# Altium schematic symbol library Resistor_0603.SchLib: 250 symbols (part 2 of 6)
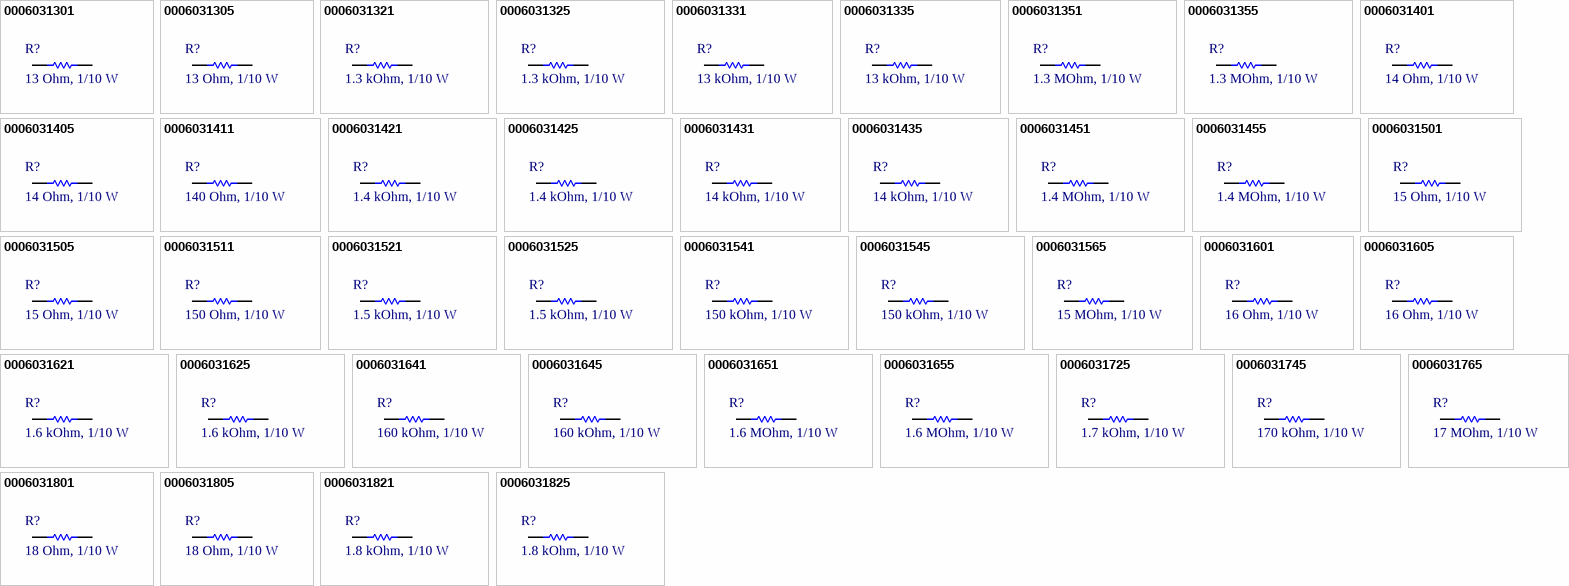
[diagram p7: symbols 0006031301 to 0006031825]

## 0006031325
designator R?, comment 1.3 kOhm, 1/10 W
RES, size 0603, 1.3 kOhm, 1/10 W, 5%; Manufacturer: Panasonic; Manufacturer Part Number: ERJ-PA3J132V; Rated Power: 1/10 W; Tolerance: +/-5%; Resistance: 1.3 kOhm; Supplier 1 URL: https://www.mouser.vn/ProductDetail/Panasonic/ERJ-PA3J132V?qs=BzJM0faLVqVH6IcrChaVZw%3D%3D; Supplier 3 URL: N/A; Value: 1.3 kOhm; Supplier 2 URL: https://www.digikey.com/en/products/detail/panasonic-electronic-components/ERJ-PA3J132V/5035986?s=N4IgTCBcDaIGxwOwFoCiAlAUsgCgQQGZMBGAsANRAF0BfIA; Packaging: Tape and Reel; Supplier 1: Mouser; Supplier 1 Part Number: 667-ERJ-PA3J132V; Supplier 2: Digi-Key; Supplier 2 Part Number: P1.3KBZTR-ND - Tape & Reel (TR); Supplier 3: thegioiic; Supplier 3 Part Number: N/A; ComponentLink1Description: Datasheet; ComponentLink1URL: https://www.mouser.vn/datasheet/2/315/AOA0000C331-1141874.pdf; Mount: SMD/SMT; Operating Temperature Max: + 85 C; Operating Temperature Min: - 40 C; Package / Case: 0603; LCSC Part #: N/A
footprint RES_0603 (Chip Resistor, 2-Leads, Body 1.55x0.85mm, IPC Medium Density)
simulation model R_Resistor_Default (Model Description)
signal-integrity model Resistor Model
pins: 1, 2

## 0006031331
designator R?, comment 13 kOhm, 1/10 W
RES, size 0603, 13 kOhm, 1/10 W, 1%; Manufacturer: YAGEO; Manufacturer Part Number: RC0603FR-0713KL; Resistance: 13 kOhm; Rated Power: 1/10 W; Value: 13 kOhm; Tolerance: +/-1%; Supplier 1 URL: https://www.mouser.vn/ProductDetail/YAGEO/RC0603FR-0713KL?qs=VU8sRB4EgwDwzme11Z67rA%3D%3D; Supplier 3 URL: N/A; Supplier 2 URL: https://www.digikey.com/en/products/detail/yageo/rc0603fr-0713kl/726929; Packaging: Tape and Reel; Supplier 1: Mouser; Supplier 1 Part Number: 603-RC0603FR-0713KL; Supplier 2: Digi-Key; Supplier 2 Part Number: 311-13.0KHRTR-ND; Supplier 3: thegioiic; Supplier 3 Part Number: N/A; ComponentLink1Description: Datasheet; ComponentLink1URL: https://lcsc.com/datasheet/lcsc_datasheet_2506161055_YAGEO-RC0603FR-0713K3L_C185373.pdf; Mount: SMD/SMT; Operating Temperature Max: + 85 C; Operating Temperature Min: - 40 C; Package / Case: 0603; LCSC Part #: C137796
footprint RES_0603 (Chip Resistor, 2-Leads, Body 1.55x0.85mm, IPC Medium Density)
simulation model R_Resistor_Default (Model Description)
signal-integrity model Resistor Model
pins: 1, 2

## 0006031335
designator R?, comment 13 kOhm, 1/10 W
RES, size 0603, 13 kOhm, 1/10 W, 5%; Manufacturer: Panasonic; Manufacturer Part Number: ERJ-PA3J133V; Rated Power: 1/10 W; Resistance: 13 kOhm; Value: 13 kOhm; Tolerance: +/-5%; Supplier 1 URL: https://www.mouser.vn/ProductDetail/Panasonic/ERJ-PA3J133V?qs=BzJM0faLVqWIEe8wMw2nxQ%3D%3D; Supplier 3 URL: https://www.thegioiic.com/dien-tro-13-kohm-0603-5; Supplier 2 URL: https://www.digikey.com/en/products/detail/panasonic-electronic-components/ERJ-PA3J133V/5035987?s=N4IgTCBcDaIGxwOwFoCiAlAUsgCgQQGZMBGAggNRAF0BfIA; Packaging: Tape and Reel; Supplier 1: Mouser; Supplier 1 Part Number: 667-ERJ-PA3J133V; Supplier 2: Digi-Key; Supplier 2 Part Number: P13KBZTR-ND - Tape & Reel (TR); Supplier 3: thegioiic; Supplier 3 Part Number: N/A; ComponentLink1Description: Datasheet; ComponentLink1URL: https://www.mouser.vn/datasheet/2/315/AOA0000C331-1141874.pdf; Mount: SMD/SMT; Operating Temperature Max: + 85 C; Operating Temperature Min: - 40 C; Package / Case: 0603; LCSC Part #: N/A
footprint RES_0603 (Chip Resistor, 2-Leads, Body 1.55x0.85mm, IPC Medium Density)
simulation model R_Resistor_Default (Model Description)
signal-integrity model Resistor Model
pins: 1, 2

## 0006031351
designator R?, comment 1.3 MOhm, 1/10 W
RES, size 0603, 1.3 MOhm, 1/10 W, 1%; Manufacturer: OEM; Rated Power: 1/10 W; Tolerance: +/-1%; Resistance: 1.3 MOhm; Supplier 1 URL: https://www.mouser.vn/ProductDetail/ROHM-Semiconductor/ESR03EZPF1304?qs=sGAEpiMZZMvdGkrng054tywGjayRHxH2F68AQDlvJAEARD0qBpXaNA%3D%3D; Supplier 3 URL: N/A; Value: 1.3 MOhm; Supplier 2 URL: https://www.digikey.com/en/products/detail/rohm-semiconductor/ESR03EZPF1304/4007161?s=N4IgjCBcoExaBjKAzAhgGwM4FMA0IB7KAbXADYBWAFgGYQBdfABwBcoQBlFgJwEsA7AOYgAvvjrQQSSGix5CJcGBoRGIVuy58ho-GBgBOCJOmyc%2BIpFI0DMKhQbM2kTjwHCxIGAAYAHA5MUDHMFK3AAOhoAAgBZAHkACwBbTEd1ZxAAVX5eFjjkGOxUTABXbmxRTzgw8sxeTBYCbgYRIA; Packaging: Tape and Reel; Supplier 1: Mouser; Supplier 1 Part Number: 755-ESR03EZPF1304; Supplier 2: Digi-Key; Supplier 2 Part Number: ESR03EZPF1304-ND; Supplier 3: thegioiic; Supplier 3 Part Number: N/A; Manufacturer Part Number: OEM; ComponentLink1Description: Datasheet; ComponentLink1URL: https://fscdn.rohm.com/en/products/databook/datasheet/passive/resistor/chip_resistor/esr-e.pdf; Mount: SMD/SMT; Operating Temperature Max: + 85 C; Operating Temperature Min: - 40 C; Package / Case: 0603; LCSC Part #: N/A
footprint RES_0603 (Chip Resistor, 2-Leads, Body 1.55x0.85mm, IPC Medium Density)
simulation model R_Resistor_Default (Model Description)
signal-integrity model Resistor Model
pins: 1, 2

## 0006031355
designator R?, comment 1.3 MOhm, 1/10 W
RES, size 0603, 1.3 MOhm, 1/10 W, 5%; Manufacturer: Panasonic; Manufacturer Part Number: ERJ-PA3J135V; Rated Power: 1/10 W; Tolerance: +/-5%; Resistance: 1.3 MOhm; Supplier 1 URL: https://www.mouser.vn/ProductDetail/Panasonic/ERJ-PA3J135V?qs=qSfuJ%252Bfl%2Fd43JlVrOpg6Sg%3D%3D; Supplier 3 URL: N/A; Value: 1.3 MOhm; Supplier 2 URL: https://www.digikey.com/en/products/detail/panasonic-electronic-components/ERJ-PA3J135V/9694906?s=N4IgTCBcDaIGxwOwFoCiAlAUsgCgQQGZMBGAgVgDUQBdAXyA; Packaging: Tape and Reel; Supplier 1: Mouser; Supplier 1 Part Number: 667-ERJ-PA3J135V; Supplier 2: Digi-Key; Supplier 2 Part Number: P124100TR-ND - Tape & Reel (TR); Supplier 3: thegioiic; Supplier 3 Part Number: N/A; ComponentLink1Description: Datasheet; ComponentLink1URL: https://www.mouser.vn/datasheet/2/315/Panasonic_Resistors_Thick_Film_Anti_Sulf_Anti_Surg-1825099.pdf; Mount: SMD/SMT; Operating Temperature Max: + 85 C; Operating Temperature Min: - 40 C; Package / Case: 0603; LCSC Part #: N/A
footprint RES_0603 (Chip Resistor, 2-Leads, Body 1.55x0.85mm, IPC Medium Density)
simulation model R_Resistor_Default (Model Description)
signal-integrity model Resistor Model
pins: 1, 2

## 0006031401
designator R?, comment 14 Ohm, 1/10 W
RES, size 0603, 14 Ohm, 1/10 W, 1%; Manufacturer: OEM; Resistance: 14 Ohm; Rated Power: 1/10 W; Value: 14 Ohm; Tolerance: +/-1%; Supplier 1 URL: https://www.mouser.vn/ProductDetail/ROHM-Semiconductor/ESR03EZPF14R0?qs=sGAEpiMZZMvdGkrng054txLI%2FDB4oIKDWIlgynysVFeNX%252Bd5gR98IA%3D%3D; Supplier 3 URL: N/A; Supplier 2 URL: https://www.digikey.com/en/products/detail/rohm-semiconductor/ESR03EZPF14R0/15667414; Packaging: Tape and Reel; Supplier 1: Mouser; Supplier 1 Part Number: 755-ESR03EZPF14R0; Supplier 2: Digi-Key; Supplier 2 Part Number: 511-ESR03EZPF14R0TR-ND 511-ESR03EZPF14R0CT-ND 511-ESR03EZPF14R0DKR-ND; Supplier 3: thegioiic; Supplier 3 Part Number: N/A; Manufacturer Part Number: OEM; ComponentLink1Description: Datasheet; ComponentLink1URL: https://fscdn.rohm.com/en/products/databook/datasheet/passive/resistor/chip_resistor/esr-e.pdf; Mount: SMD/SMT; Operating Temperature Max: + 85 C; Operating Temperature Min: - 40 C; Package / Case: 0603; LCSC Part #: N/A
footprint RES_0603 (Chip Resistor, 2-Leads, Body 1.55x0.85mm, IPC Medium Density)
simulation model R_Resistor_Default (Model Description)
signal-integrity model Resistor Model
pins: 1, 2

## 0006031405
designator R?, comment 14 Ohm, 1/10 W
RES, size 0603, 14 Ohm, 1/10 W, 5%; Manufacturer: OEM; Rated Power: 1/10 W; Resistance: 14 Ohm; Value: 14 Ohm; Tolerance: +/-5%; Supplier 1 URL: N/A; Supplier 3 URL: N/A; Supplier 2 URL: N/A; Packaging: Tape and Reel; Supplier 1: Mouser; Supplier 1 Part Number: N/A; Supplier 2: Digi-Key; Supplier 2 Part Number: N/A; Supplier 3: thegioiic; Supplier 3 Part Number: N/A; Manufacturer Part Number: OEM; ComponentLink1Description: Datasheet; ComponentLink1URL: N/A; Mount: SMD/SMT; Operating Temperature Max: + 85 C; Operating Temperature Min: - 40 C; Package / Case: 0603; LCSC Part #: N/A
footprint RES_0603 (Chip Resistor, 2-Leads, Body 1.55x0.85mm, IPC Medium Density)
simulation model R_Resistor_Default (Model Description)
signal-integrity model Resistor Model
pins: 1, 2

## 0006031411
designator R?, comment 140 Ohm, 1/10 W
RES, size 0603, 140 Ohm, 1/10 W, 1%; Manufacturer: OEM; Resistance: 140 Ohm; Rated Power: 1/10 W; Value: 140 Ohm; Tolerance: +/-1%; Supplier 1 URL: https://www.mouser.vn/ProductDetail/Panasonic/ERJ-PA3F1400V?qs=sGAEpiMZZMvdGkrng054t6%2FAfIpq60YDUw0C6t6aFC9B4ZKoQojPVQ%3D%3D; Supplier 3 URL: N/A; Supplier 2 URL: N/A; Packaging: Tape and Reel; Supplier 1: Mouser; Supplier 1 Part Number: 667-ERJ-PA3F1400V; Supplier 2: Digi-Key; Supplier 2 Part Number: 10-ERJ-UP3F1400VTR-ND; Supplier 3: thegioiic; Supplier 3 Part Number: N/A; Manufacturer Part Number: OEM; ComponentLink1Description: Datasheet; ComponentLink1URL: https://api.pim.na.industrial.panasonic.com/file_stream/main/fileversion/4484; Mount: SMD/SMT; Operating Temperature Max: + 85 C; Operating Temperature Min: - 40 C; Package / Case: 0603; LCSC Part #: N/A
footprint RES_0603 (Chip Resistor, 2-Leads, Body 1.55x0.85mm, IPC Medium Density)
simulation model R_Resistor_Default (Model Description)
signal-integrity model Resistor Model
pins: 1, 2

## 0006031421
designator R?, comment 1.4 kOhm, 1/10 W
RES, size 0603, 1.4 kOhm, 1/10 W, 1%; Manufacturer: OEM; Rated Power: 1/10 W; Tolerance: +/-1%; Resistance: 1.4 kOhm; Supplier 1 URL: https://www.mouser.vn/ProductDetail/Panasonic/ERJ-UP3F1401V?qs=sGAEpiMZZMvdGkrng054twq3eZrCFN89pBpe1a038m3v47HekkOiAg%3D%3D; Supplier 3 URL: N/A; Value: 1.4 kOhm; Supplier 2 URL: N/A; Packaging: Tape and Reel; Supplier 1: Mouser; Supplier 1 Part Number: 667-ERJ-UP3F1401V; Supplier 2: Digi-Key; Supplier 2 Part Number: 10-ERJ-UP3F1401VTR-ND; Supplier 3: thegioiic; Supplier 3 Part Number: N/A; Manufacturer Part Number: OEM; ComponentLink1Description: Datasheet; ComponentLink1URL: https://api.pim.na.industrial.panasonic.com/file_stream/main/fileversion/4484; Mount: SMD/SMT; Operating Temperature Max: + 85 C; Operating Temperature Min: - 40 C; Package / Case: 0603; LCSC Part #: N/A
footprint RES_0603 (Chip Resistor, 2-Leads, Body 1.55x0.85mm, IPC Medium Density)
simulation model R_Resistor_Default (Model Description)
signal-integrity model Resistor Model
pins: 1, 2

## 0006031425
designator R?, comment 1.4 kOhm, 1/10 W
RES, size 0603, 1.4 kOhm, 1/10 W, 5%; Manufacturer: OEM; Rated Power: 1/10 W; Tolerance: +/-5%; Resistance: 1.4 kOhm; Supplier 1 URL: N/A; Supplier 3 URL: N/A; Value: 1.4 kOhm; Supplier 2 URL: N/A; Packaging: Tape and Reel; Supplier 1: Mouser; Supplier 1 Part Number: N/A; Supplier 2: Digi-Key; Supplier 2 Part Number: N/A; Supplier 3: thegioiic; Supplier 3 Part Number: N/A; Manufacturer Part Number: OEM; ComponentLink1Description: Datasheet; ComponentLink1URL: N/A; Mount: SMD/SMT; Operating Temperature Max: + 85 C; Operating Temperature Min: - 40 C; Package / Case: 0603; LCSC Part #: N/A
footprint RES_0603 (Chip Resistor, 2-Leads, Body 1.55x0.85mm, IPC Medium Density)
simulation model R_Resistor_Default (Model Description)
signal-integrity model Resistor Model
pins: 1, 2

## 0006031431
designator R?, comment 14 kOhm, 1/10 W
RES, size 0603, 14 kOhm, 1/10 W, 1%; Manufacturer: OEM; Resistance: 14 kOhm; Rated Power: 1/10 W; Value: 14 kOhm; Tolerance: +/-1%; Supplier 1 URL: https://www.mouser.vn/ProductDetail/Panasonic/ERJ-UP3F1402V?qs=sGAEpiMZZMvdGkrng054twq3eZrCFN898VaK5WHU92U0FyzYc7IlXQ%3D%3D; Supplier 3 URL: N/A; Supplier 2 URL: N/A; Packaging: Tape and Reel; Supplier 1: Mouser; Supplier 1 Part Number: 667-ERJ-UP3F1402V; Supplier 2: Digi-Key; Supplier 2 Part Number: 10-ERJ-UP3F1402VTR-ND; Supplier 3: thegioiic; Supplier 3 Part Number: N/A; Manufacturer Part Number: OEM; ComponentLink1Description: Datasheet; ComponentLink1URL: https://api.pim.na.industrial.panasonic.com/file_stream/main/fileversion/4484; Mount: SMD/SMT; Operating Temperature Max: + 85 C; Operating Temperature Min: - 40 C; Package / Case: 0603; LCSC Part #: N/A
footprint RES_0603 (Chip Resistor, 2-Leads, Body 1.55x0.85mm, IPC Medium Density)
simulation model R_Resistor_Default (Model Description)
signal-integrity model Resistor Model
pins: 1, 2

## 0006031435
designator R?, comment 14 kOhm, 1/10 W
RES, size 0603, 14 kOhm, 1/10 W, 5%; Manufacturer: OEM; Rated Power: 1/10 W; Resistance: 14 kOhm; Value: 14 kOhm; Tolerance: +/-5%; Supplier 1 URL: N/A; Supplier 3 URL: N/A; Supplier 2 URL: N/A; Packaging: Tape and Reel; Supplier 1: Mouser; Supplier 1 Part Number: N/A; Supplier 2: Digi-Key; Supplier 2 Part Number: N/A; Supplier 3: thegioiic; Supplier 3 Part Number: N/A; Manufacturer Part Number: OEM; ComponentLink1Description: Datasheet; ComponentLink1URL: N/A; Mount: SMD/SMT; Operating Temperature Max: + 85 C; Operating Temperature Min: - 40 C; Package / Case: 0603; LCSC Part #: N/A
footprint RES_0603 (Chip Resistor, 2-Leads, Body 1.55x0.85mm, IPC Medium Density)
simulation model R_Resistor_Default (Model Description)
signal-integrity model Resistor Model
pins: 1, 2

## 0006031451
designator R?, comment 1.4 MOhm, 1/10 W
RES, size 0603, 1.4 MOhm, 1/10 W, 1%; Manufacturer: OEM; Rated Power: 1/10 W; Tolerance: +/-1%; Resistance: 1.4 MOhm; Supplier 1 URL: https://www.mouser.vn/ProductDetail/Walsin/MR06W1404FTL?qs=GedFDFLaBXEJcV7CwmDJPg%3D%3D; Supplier 3 URL: N/A; Value: 1.4 MOhm; Supplier 2 URL: N/A; Packaging: Tape and Reel; Supplier 1: Mouser; Supplier 1 Part Number: 791-MR06W1404FTL; Supplier 2: Digi-Key; Supplier 2 Part Number: N/A; Supplier 3: thegioiic; Supplier 3 Part Number: N/A; Manufacturer Part Number: OEM; ComponentLink1Description: Datasheet; ComponentLink1URL: https://www.mouser.vn/datasheet/2/210/kamaya_watc_s_a0007468046_1-1736097.pdf; Mount: SMD/SMT; Operating Temperature Max: + 85 C; Operating Temperature Min: - 40 C; Package / Case: 0603; LCSC Part #: N/A
footprint RES_0603 (Chip Resistor, 2-Leads, Body 1.55x0.85mm, IPC Medium Density)
simulation model R_Resistor_Default (Model Description)
signal-integrity model Resistor Model
pins: 1, 2

## 0006031455
designator R?, comment 1.4 MOhm, 1/10 W
RES, size 0603, 1.4 MOhm, 1/10 W, 5%; Manufacturer: OEM; Rated Power: 1/10 W; Tolerance: +/-5%; Resistance: 1.4 MOhm; Supplier 1 URL: N/A; Supplier 3 URL: N/A; Value: 1.4 MOhm; Supplier 2 URL: N/A; Packaging: Tape and Reel; Supplier 1: Mouser; Supplier 1 Part Number: N/A; Supplier 2: Digi-Key; Supplier 2 Part Number: N/A; Supplier 3: thegioiic; Supplier 3 Part Number: N/A; Manufacturer Part Number: OEM; ComponentLink1Description: Datasheet; ComponentLink1URL: N/A; Mount: SMD/SMT; Operating Temperature Max: + 85 C; Operating Temperature Min: - 40 C; Package / Case: 0603; LCSC Part #: N/A
footprint RES_0603 (Chip Resistor, 2-Leads, Body 1.55x0.85mm, IPC Medium Density)
simulation model R_Resistor_Default (Model Description)
signal-integrity model Resistor Model
pins: 1, 2

## 0006031501
designator R?, comment 15 Ohm, 1/10 W
RES, size 0603, 15 Ohm, 1/10 W, 1%; Manufacturer: OEM; Rated Power: 1/10 W; Resistance: 15 Ohm; Value: 15 Ohm; Tolerance: +/-1%; Supplier 1 URL: https://www.mouser.vn/ProductDetail/Panasonic/ERJ-UP3F15R0V?qs=GedFDFLaBXGQZcdT1wNdQA%3D%3D; Supplier 3 URL: N/A; Supplier 2 URL: https://www.digikey.com/en/products/detail/te-connectivity-passive-product/CRGCQ0603F15R/8576268; Packaging: Tape and Reel; Supplier 1: Mouser; Supplier 1 Part Number: 667-ERJ-UP3F15R0V; Supplier 2: Digi-Key; Supplier 2 Part Number: A129666TR-ND; Supplier 3: thegioiic; Supplier 3 Part Number: N/A; Manufacturer Part Number: OEM; ComponentLink1Description: Datasheet; ComponentLink1URL: N/A; Mount: SMD/SMT; Operating Temperature Max: + 85 C; Operating Temperature Min: - 40 C; Package / Case: 0603; LCSC Part #: N/A
footprint RES_0603 (Chip Resistor, 2-Leads, Body 1.55x0.85mm, IPC Medium Density)
simulation model R_Resistor_Default (Model Description)
signal-integrity model Resistor Model
pins: 1, 2

## 0006031505
designator R?, comment 15 Ohm, 1/10 W
RES, size 0603, 15 Ohm, 1/10 W, 5%; Manufacturer: Panasonic; Manufacturer Part Number: ERJ-PA3J150V; Rated Power: 1/10 W; Resistance: 15 Ohm; Value: 15 Ohm; Tolerance: +/-5%; Supplier 1 URL: https://www.mouser.vn/ProductDetail/Panasonic/ERJ-PA3J150V?qs=BzJM0faLVqWQrQpdpn4WSg%3D%3D; Supplier 3 URL: https://www.thegioiic.com/dien-tro-15-ohm-0603-5-; Supplier 2 URL: https://www.digikey.com/en/products/detail/panasonic-electronic-components/ERJ-PA3J150V/5035989?s=N4IgTCBcDaIGxwOwFoCiAlAUsgCgQQGZMBGAVgAYA1EAXQF8g; Packaging: Tape and Reel; Supplier 1: Mouser; Supplier 1 Part Number: 667-ERJ-PA3J150V; Supplier 2: Digi-Key; Supplier 2 Part Number: P15.00BZTR-ND - Tape & Reel (TR); Supplier 3: thegioiic; Supplier 3 Part Number: N/A; ComponentLink1Description: Datasheet; ComponentLink1URL: https://www.mouser.vn/datasheet/2/315/AOA0000C331-1141874.pdf; Mount: SMD/SMT; Operating Temperature Max: + 85 C; Operating Temperature Min: - 40 C; Package / Case: 0603; LCSC Part #: N/A
footprint RES_0603 (Chip Resistor, 2-Leads, Body 1.55x0.85mm, IPC Medium Density)
simulation model R_Resistor_Default (Model Description)
signal-integrity model Resistor Model
pins: 1, 2

## 0006031511
designator R?, comment 150 Ohm, 1/10 W
RES, size 0603, 150 Ohm, 1/10 W, 1%; Manufacturer: OEM; Resistance: 150 Ohm; Rated Power: 1/10 W; Value: 150 Ohm; Tolerance: +/-1%; Supplier 1 URL: https://www.mouser.vn/ProductDetail/Panasonic/ERJ-UP3F1500V?qs=sGAEpiMZZMvdGkrng054twq3eZrCFN89aN9HHZ6KB345kfMKb%252BB8mQ%3D%3D; Supplier 3 URL: N/A; Supplier 2 URL: N/A; Packaging: Tape and Reel; Supplier 1: Mouser; Supplier 1 Part Number: 667-ERJ-UP3F1500V; Supplier 2: Digi-Key; Supplier 2 Part Number: 10-ERJ-UP3F1500VTR-ND 10-ERJ-UP3F1500VCT-ND 10-ERJ-UP3F1500VDKR-ND; Supplier 3: thegioiic; Supplier 3 Part Number: N/A; Manufacturer Part Number: OEM; ComponentLink1Description: Datasheet; ComponentLink1URL: https://api.pim.na.industrial.panasonic.com/file_stream/main/fileversion/4484; Mount: SMD/SMT; Operating Temperature Max: + 85 C; Operating Temperature Min: - 40 C; Package / Case: 0603; LCSC Part #: N/A
footprint RES_0603 (Chip Resistor, 2-Leads, Body 1.55x0.85mm, IPC Medium Density)
simulation model R_Resistor_Default (Model Description)
signal-integrity model Resistor Model
pins: 1, 2

## 0006031521
designator R?, comment 1.5 kOhm, 1/10 W
RES, size 0603, 1.5 kOhm, 1/10 W, 1%; Manufacturer: OEM; Rated Power: 1/10 W; Tolerance: +/-1%; Resistance: 1.5  kOhm; Supplier 1 URL: https://www.mouser.vn/ProductDetail/ROHM-Semiconductor/SFR03EZPF1501?qs=byeeYqUIh0NryWvnzlukLQ%3D%3D; Supplier 3 URL: N/A; Value: 1.5 kOhm; Supplier 2 URL: https://www.digikey.com/en/products/detail/yageo/RC0603FR-071R5L/5918292; Packaging: Tape and Reel; Supplier 1: Mouser; Supplier 1 Part Number: 755-SFR03EZPF1501; Supplier 2: Digi-Key; Supplier 2 Part Number: 13-RC0603FR-071R5LTR-ND; Supplier 3: thegioiic; Supplier 3 Part Number: N/A; Manufacturer Part Number: OEM; ComponentLink1Description: Datasheet; ComponentLink1URL: N/A; Mount: SMD/SMT; Operating Temperature Max: + 85 C; Operating Temperature Min: - 40 C; Package / Case: 0603; LCSC Part #: N/A
footprint RES_0603 (Chip Resistor, 2-Leads, Body 1.55x0.85mm, IPC Medium Density)
simulation model R_Resistor_Default (Model Description)
signal-integrity model Resistor Model
pins: 1, 2

## 0006031525
designator R?, comment 1.5 kOhm, 1/10 W
RES, size 0603, 1.5 kOhm, 1/10 W, 5%; Manufacturer: Panasonic; Rated Power: 1/10 W; Tolerance: +/-5%; Resistance: 1.5 kOhm; Supplier 1 URL: https://www.mouser.vn/ProductDetail/Panasonic/ERJ-PA3J152V?qs=BzJM0faLVqVoRX2ZXjooUw%3D%3D; Supplier 3 URL: N/A; Value: 1.5 kOhm; Supplier 2 URL: https://www.digikey.com/en/products/detail/panasonic-electronic-components/ERJ-PA3J152V/5035991?s=N4IgTCBcDaIGxwOwFoCiAlAUsgCgQQGZMBGAVjADUQBdAXyA; Packaging: Tape and Reel; Supplier 1: Mouser; Supplier 1 Part Number: 667-ERJ-PA3J152V; Supplier 2: Digi-Key; Supplier 2 Part Number: P1.5KBZTR-ND - Tape & Reel (TR); Supplier 3: thegioiic; Supplier 3 Part Number: N/A; Manufacturer Part Number: https://www.mouser.vn/ProductDetail/Panasonic/ERJ-PA3J152V?qs=BzJM0faLVqVoRX2ZXjooUw%3D%3D; ComponentLink1Description: Datasheet; ComponentLink1URL: https://www.mouser.vn/datasheet/2/315/Panasonic_Resistors_Thick_Film_Anti_Sulf_Anti_Surg-1825099.pdf; Mount: SMD/SMT; Operating Temperature Max: + 85 C; Operating Temperature Min: - 40 C; Package / Case: 0603; LCSC Part #: N/A
footprint RES_0603 (Chip Resistor, 2-Leads, Body 1.55x0.85mm, IPC Medium Density)
simulation model R_Resistor_Default (Model Description)
signal-integrity model Resistor Model
pins: 1, 2

## 0006031541
designator R?, comment 150 kOhm, 1/10 W
RES, size 0603, 150 kOhm, 1/10 W, 1%; Manufacturer: YAGEO; Manufacturer Part Number: RC0603FR-07150KL; Rated Power: 1/10 W; Tolerance: +/-1%; Resistance: 150 kOhm; Supplier 1 URL: https://www.mouser.com/ProductDetail/YAGEO/RC0603FR-07150KL?qs=VU8sRB4EgwAs5t5QrX5iHA%3D%3D; Supplier 3 URL: N/A; Value: 150 kOhm; Supplier 2 URL: https://www.digikey.com/en/products/detail/yageo/rc0603fr-07150kl/726959; Packaging: Tape and Reel; Supplier 1: Mouser; Supplier 1 Part Number: 603-RC0603FR-07150KL; Supplier 2: Digi-Key; Supplier 2 Part Number: 311-150KHRTR-ND; Supplier 3: thegioiic; Supplier 3 Part Number: N/A; ComponentLink1Description: Datasheet; ComponentLink1URL: https://www.lcsc.com/datasheet/C114660.pdf; Mount: SMD/SMT; Operating Temperature Max: + 85 C; Operating Temperature Min: - 40 C; Package / Case: 0603; LCSC Part #: C114660
footprint RES_0603 (Chip Resistor, 2-Leads, Body 1.55x0.85mm, IPC Medium Density)
simulation model R_Resistor_Default (Model Description)
signal-integrity model Resistor Model
pins: 1, 2

## 0006031545
designator R?, comment 150 kOhm, 1/10 W
RES, size 0603, 150 kOhm, 1/10 W, 5%; Manufacturer: Panasonic; Manufacturer Part Number: ERJ-PA3J154V; Rated Power: 1/10 W; Tolerance: +/-5%; Resistance: 150 kOhm; Supplier 1 URL: https://www.mouser.vn/ProductDetail/Panasonic/ERJ-PA3J154V?qs=BzJM0faLVqUQ0OxnTOD5Tw%3D%3D; Supplier 3 URL: https://www.thegioiic.com/dien-tro-150-kohm-0603-5; Value: 150 kOhm; Supplier 2 URL: https://www.digikey.com/en/products/detail/panasonic-electronic-components/ERJ-PA3J154V/5035993?s=N4IgTCBcDaIKICUBSBaACgQQMxIIwFYAWANRAF0BfIA; Packaging: Tape and Reel; Supplier 1: Mouser; Supplier 1 Part Number: 667-ERJ-PA3J154V; Supplier 2: Digi-Key; Supplier 2 Part Number: P150KBZTR-ND - Tape & Reel (TR); Supplier 3: thegioiic; Supplier 3 Part Number: N/A; ComponentLink1Description: Datasheet; ComponentLink1URL: https://www.mouser.vn/datasheet/2/315/AOA0000C331-1141874.pdf; Mount: SMD/SMT; Operating Temperature Max: + 85 C; Operating Temperature Min: - 40 C; Package / Case: 0603; LCSC Part #: N/A
footprint RES_0603 (Chip Resistor, 2-Leads, Body 1.55x0.85mm, IPC Medium Density)
simulation model R_Resistor_Default (Model Description)
signal-integrity model Resistor Model
pins: 1, 2

## 0006031565
designator R?, comment 15 MOhm, 1/10 W
RES, size 0603, 15 MOhm, 1/10 W, 5%; Manufacturer: OEM; Rated Power: 1/10 W; Resistance: 15 MOhm; Value: 15 MOhm; Tolerance: +/-5%; Supplier 1 URL: N/A; Supplier 3 URL: N/A; Supplier 2 URL: N/A; Packaging: Tape and Reel; Supplier 1: Mouser; Supplier 1 Part Number: N/A; Supplier 2: Digi-Key; Supplier 2 Part Number: N/A; Supplier 3: thegioiic; Supplier 3 Part Number: N/A; Manufacturer Part Number: OEM; ComponentLink1Description: Datasheet; ComponentLink1URL: N/A; Mount: SMD/SMT; Operating Temperature Max: + 85 C; Operating Temperature Min: - 40 C; Package / Case: 0603; LCSC Part #: N/A
footprint RES_0603 (Chip Resistor, 2-Leads, Body 1.55x0.85mm, IPC Medium Density)
simulation model R_Resistor_Default (Model Description)
signal-integrity model Resistor Model
pins: 1, 2

## 0006031601
designator R?, comment 16 Ohm, 1/10 W
RES, size 0603, 16 Ohm, 1/10 W, 1%; Manufacturer: OEM; Resistance: 16 Ohm; Rated Power: 1/10 W; Value: 16 Ohm; Tolerance: +/-1%; Supplier 1 URL: https://www.mouser.vn/ProductDetail/ROHM-Semiconductor/ESR03EZPF16R0?qs=sGAEpiMZZMvdGkrng054tywGjayRHxH2wMEIET7Cwghl8FZ0HiH%2FCA%3D%3D; Supplier 3 URL: N/A; Supplier 2 URL: https://www.digikey.com/en/products/detail/rohm-semiconductor/ESR03EZPF16R0/4007172; Packaging: Tape and Reel; Supplier 1: Mouser; Supplier 1 Part Number: 755-ESR03EZPF16R0; Supplier 2: Digi-Key; Supplier 2 Part Number: ESR03EZPF16R0-ND; Supplier 3: thegioiic; Supplier 3 Part Number: N/A; Manufacturer Part Number: OEM; ComponentLink1Description: Datasheet; ComponentLink1URL: https://fscdn.rohm.com/en/products/databook/datasheet/passive/resistor/chip_resistor/esr-e.pdf; Mount: SMD/SMT; Operating Temperature Max: + 85 C; Operating Temperature Min: - 40 C; Package / Case: 0603; LCSC Part #: N/A
footprint RES_0603 (Chip Resistor, 2-Leads, Body 1.55x0.85mm, IPC Medium Density)
simulation model R_Resistor_Default (Model Description)
signal-integrity model Resistor Model
pins: 1, 2

## 0006031605
designator R?, comment 16 Ohm, 1/10 W
RES, size 0603, 16 Ohm, 1/10 W, 5%; Manufacturer: Panasonic; Manufacturer Part Number: ERJ-PA3J160V; Rated Power: 1/10 W; Resistance: 16 Ohm; Value: 16 Ohm; Tolerance: +/-5%; Supplier 1 URL: https://www.mouser.vn/ProductDetail/Panasonic/ERJ-PA3J160V?qs=BzJM0faLVqV33b%2FdElWIBA%3D%3D; Supplier 3 URL: N/A; Supplier 2 URL: https://www.digikey.com/en/products/detail/panasonic-electronic-components/ERJ-PA3J160V/5035994?s=N4IgTCBcDaIGxwOwFoCiAlAUsgCgQQGZMBGOABgDUQBdAXyA; Packaging: Tape and Reel; Supplier 1: Mouser; Supplier 1 Part Number: 667-ERJ-PA3J160V; Supplier 2: Digi-Key; Supplier 2 Part Number: P16.00BZTR-ND - Tape & Reel (TR); Supplier 3: thegioiic; Supplier 3 Part Number: N/A; ComponentLink1Description: Datasheet; ComponentLink1URL: https://www.mouser.vn/datasheet/2/315/AOA0000C331-1141874.pdf; Mount: SMD/SMT; Operating Temperature Max: + 85 C; Operating Temperature Min: - 40 C; Package / Case: 0603; LCSC Part #: N/A
footprint RES_0603 (Chip Resistor, 2-Leads, Body 1.55x0.85mm, IPC Medium Density)
simulation model R_Resistor_Default (Model Description)
signal-integrity model Resistor Model
pins: 1, 2

## 0006031621
designator R?, comment 1.6 kOhm, 1/10 W
RES, size 0603, 1.6 kOhm, 1/10 W, 1%; Manufacturer: OEM; Rated Power: 1/10 W; Tolerance: +/-1%; Resistance: 1.6 kOhm; Supplier 1 URL: https://www.mouser.vn/ProductDetail/Panasonic/ERJ-UP3F1601V?qs=sGAEpiMZZMvdGkrng054twq3eZrCFN89dq27EuLiC%2FCt%252B5lA9pZnUg%3D%3D; Supplier 3 URL: N/A; Value: 1.6 kOhm; Supplier 2 URL: N/A; Packaging: Tape and Reel; Supplier 1: Mouser; Supplier 1 Part Number: 667-ERJ-UP3F1601V; Supplier 2: Digi-Key; Supplier 2 Part Number: 10-ERJ-UP3F1601VTR-ND 10-ERJ-UP3F1601VCT-ND 10-ERJ-UP3F1601VDKR-ND; Supplier 3: thegioiic; Supplier 3 Part Number: N/A; Manufacturer Part Number: OEM; ComponentLink1Description: Datasheet; ComponentLink1URL: https://api.pim.na.industrial.panasonic.com/file_stream/main/fileversion/4484; Mount: SMD/SMT; Operating Temperature Max: + 85 C; Operating Temperature Min: - 40 C; Package / Case: 0603; LCSC Part #: N/A
footprint RES_0603 (Chip Resistor, 2-Leads, Body 1.55x0.85mm, IPC Medium Density)
simulation model R_Resistor_Default (Model Description)
signal-integrity model Resistor Model
pins: 1, 2

## 0006031625
designator R?, comment 1.6 kOhm, 1/10 W
RES, size 0603, 1.6 kOhm, 1/10 W, 5%; Manufacturer: Panasonic; Manufacturer Part Number: ERJ-PA3J162V; Rated Power: 1/10 W; Tolerance: +/-5%; Resistance: 1.6 kOhm; Supplier 1 URL: https://www.mouser.vn/ProductDetail/Panasonic/ERJ-PA3J162V?qs=BzJM0faLVqWmQ2dOma89Ug%3D%3D; Supplier 3 URL: N/A; Value: 1.6 kOhm; Supplier 2 URL: https://www.digikey.com/en/products/detail/panasonic-electronic-components/ERJ-PA3J162V/5035996?s=N4IgTCBcDaIGxwOwFoCiAlAUsgCgQQGZMBGOMANRAF0BfIA; Packaging: Tape and Reel; Supplier 1: Mouser; Supplier 1 Part Number: 667-ERJ-PA3J162V; Supplier 2: Digi-Key; Supplier 2 Part Number: P1.6KBZTR-ND - Tape & Reel (TR); Supplier 3: thegioiic; Supplier 3 Part Number: N/A; ComponentLink1Description: Datasheet; ComponentLink1URL: https://www.mouser.vn/datasheet/2/315/AOA0000C331-1141874.pdf; Mount: SMD/SMT; Operating Temperature Max: + 85 C; Operating Temperature Min: - 40 C; Package / Case: 0603; LCSC Part #: N/A
footprint RES_0603 (Chip Resistor, 2-Leads, Body 1.55x0.85mm, IPC Medium Density)
simulation model R_Resistor_Default (Model Description)
signal-integrity model Resistor Model
pins: 1, 2

## 0006031641
designator R?, comment 160 kOhm, 1/10 W
RES, size 0603, 160 kOhm, 1/10 W, 1%; Manufacturer: OEM; Rated Power: 1/10 W; Tolerance: +/-1%; Resistance: 160 kOhm; Supplier 1 URL: https://www.mouser.vn/ProductDetail/Panasonic/ERJ-UP3F1603V?qs=sGAEpiMZZMvdGkrng054twq3eZrCFN89v2LbROEWqwWohPOVA0N52A%3D%3D; Supplier 3 URL: N/A; Value: 160 kOhm; Supplier 2 URL: N/A; Packaging: Tape and Reel; Supplier 1: Mouser; Supplier 1 Part Number: 667-ERJ-UP3F1603V; Supplier 2: Digi-Key; Supplier 2 Part Number: 10-ERJ-UP3F1603VTR-ND 10-ERJ-UP3F1603VCT-ND 10-ERJ-UP3F1603VDKR-ND; Supplier 3: thegioiic; Supplier 3 Part Number: N/A; Manufacturer Part Number: OEM; ComponentLink1Description: Datasheet; ComponentLink1URL: https://api.pim.na.industrial.panasonic.com/file_stream/main/fileversion/4484; Mount: SMD/SMT; Operating Temperature Max: + 85 C; Operating Temperature Min: - 40 C; Package / Case: 0603; LCSC Part #: N/A
footprint RES_0603 (Chip Resistor, 2-Leads, Body 1.55x0.85mm, IPC Medium Density)
simulation model R_Resistor_Default (Model Description)
signal-integrity model Resistor Model
pins: 1, 2

## 0006031645
designator R?, comment 160 kOhm, 1/10 W
RES, size 0603, 160 kOhm, 1/10 W, 5%; Manufacturer: Panasonic; Manufacturer Part Number: ERJ-PA3J164V; Rated Power: 1/10 W; Tolerance: +/-5%; Resistance: 160 kOhm; Supplier 1 URL: https://www.mouser.vn/ProductDetail/Panasonic/ERJ-PA3J164V?qs=BzJM0faLVqVAGHfBHFIBng%3D%3D; Supplier 3 URL: N/A; Value: 160 kOhm; Supplier 2 URL: https://www.digikey.com/en/products/detail/panasonic-electronic-components/ERJ-PA3J164V/5035998?s=N4IgTCBcDaIGxwOwFoCiAlAUsgCgQQGZMBGOAFgDUQBdAXyA; Packaging: Tape and Reel; Supplier 1: Mouser; Supplier 1 Part Number: 667-ERJ-PA3J164V; Supplier 2: Digi-Key; Supplier 2 Part Number: P160KBZTR-ND - Tape & Reel (TR); Supplier 3: thegioiic; Supplier 3 Part Number: N/A; ComponentLink1Description: Datasheet; ComponentLink1URL: https://www.mouser.vn/datasheet/2/315/Panasonic_Resistors_Thick_Film_Anti_Sulf_Anti_Surg-1825099.pdf; Mount: SMD/SMT; Operating Temperature Max: + 85 C; Operating Temperature Min: - 40 C; Package / Case: 0603; LCSC Part #: N/A
footprint RES_0603 (Chip Resistor, 2-Leads, Body 1.55x0.85mm, IPC Medium Density)
simulation model R_Resistor_Default (Model Description)
signal-integrity model Resistor Model
pins: 1, 2

## 0006031651
designator R?, comment 1.6 MOhm, 1/10 W
RES, size 0603, 1.6 MOhm, 1/10 W, 1%; Manufacturer: OEM; Rated Power: 1/10 W; Tolerance: +/-1%; Resistance: 1.6 MOhm; Supplier 1 URL: https://www.mouser.vn/ProductDetail/ROHM-Semiconductor/ESR03EZPF1604?qs=sGAEpiMZZMvdGkrng054tywGjayRHxH2xp2ZonbCXxj0kHKYgwujog%3D%3D; Supplier 3 URL: N/A; Value: 1.6 MOhm; Supplier 2 URL: https://www.digikey.com/en/products/detail/rohm-semiconductor/ESR03EZPF1604/4007171?s=N4IgjCBcoExaBjKAzAhgGwM4FMA0IB7KAbXADYBWAFgGYQBdfABwBcoQBlFgJwEsA7AOYgAvvjrQQSSGix5CJcGBoRGIVuy58ho-GBgBOCJOmyc%2BIpFI0DMKhQbM2kTjwHCxIGAAYAHA5MUDHMFK3AAOjIAAgBZAHkACwBbTEd1ZxAAVX5eFjjkGOxUTABXbmxRTzgw8sxeTBYCbgYRIA; Packaging: Tape and Reel; Supplier 1: Mouser; Supplier 1 Part Number: 755-ESR03EZPF1604; Supplier 2: Digi-Key; Supplier 2 Part Number: ESR03EZPF1604-ND; Supplier 3: thegioiic; Supplier 3 Part Number: N/A; Manufacturer Part Number: OEM; ComponentLink1Description: Datasheet; ComponentLink1URL: https://fscdn.rohm.com/en/products/databook/datasheet/passive/resistor/chip_resistor/esr-e.pdf; Mount: SMD/SMT; Operating Temperature Max: + 85 C; Operating Temperature Min: - 40 C; Package / Case: 0603; LCSC Part #: N/A
footprint RES_0603 (Chip Resistor, 2-Leads, Body 1.55x0.85mm, IPC Medium Density)
simulation model R_Resistor_Default (Model Description)
signal-integrity model Resistor Model
pins: 1, 2

## 0006031655
designator R?, comment 1.6 MOhm, 1/10 W
RES, size 0603, 1.6 MOhm, 1/10 W, 5%; Manufacturer: Panasonic; Manufacturer Part Number: ESR03EZPJ165; Rated Power: 1/10 W; Tolerance: +/-5%; Resistance: 1.6 MOhm; Supplier 1 URL: https://www.mouser.vn/ProductDetail/ROHM-Semiconductor/ESR03EZPJ165?qs=493kPxzlxfJE2ulu9ea6EQ%3D%3D; Supplier 3 URL: N/A; Value: 1.6 MOhm; Supplier 2 URL: https://www.digikey.com/en/products/detail/rohm-semiconductor/ESR03EZPJ165/4051202?s=N4IgTCBcDaIOwFYEFoCiBlASgBgMyoC0AFAKQEYA2BEAXQF8g; Packaging: Tape and Reel; Supplier 1: Mouser; Supplier 1 Part Number: 755-ESR03EZPJ165; Supplier 2: Digi-Key; Supplier 2 Part Number: RHM1.6MDTR-ND - Tape & Reel (TR); Supplier 3: thegioiic; Supplier 3 Part Number: N/A; ComponentLink1Description: Datasheet; ComponentLink1URL: https://www.mouser.vn/datasheet/2/348/ROHM_S_A0011075102_1-2563252.pdf; Mount: SMD/SMT; Operating Temperature Max: + 85 C; Operating Temperature Min: - 40 C; Package / Case: 0603; LCSC Part #: N/A
footprint RES_0603 (Chip Resistor, 2-Leads, Body 1.55x0.85mm, IPC Medium Density)
simulation model R_Resistor_Default (Model Description)
signal-integrity model Resistor Model
pins: 1, 2

## 0006031725
designator R?, comment 1.7 kOhm, 1/10 W
RES, size 0603, 1.7 kOhm, 1/10 W, 5%; Manufacturer: OEM; Rated Power: 1/10 W; Tolerance: +/-5%; Resistance: 1.7 kOhm; Supplier 1 URL: N/A; Supplier 3 URL: N/A; Value: 1.7 kOhm; Supplier 2 URL: N/A; Packaging: Tape and Reel; Supplier 1: Mouser; Supplier 1 Part Number: N/A; Supplier 2: Digi-Key; Supplier 2 Part Number: N/A; Supplier 3: thegioiic; Supplier 3 Part Number: N/A; Manufacturer Part Number: OEM; ComponentLink1Description: Datasheet; ComponentLink1URL: N/A; Mount: SMD/SMT; Operating Temperature Max: + 85 C; Operating Temperature Min: - 40 C; Package / Case: 0603; LCSC Part #: N/A
footprint RES_0603 (Chip Resistor, 2-Leads, Body 1.55x0.85mm, IPC Medium Density)
simulation model R_Resistor_Default (Model Description)
signal-integrity model Resistor Model
pins: 1, 2

## 0006031745
designator R?, comment 170 kOhm, 1/10 W
RES, size 0603, 170 kOhm, 1/10 W, 5%; Manufacturer: OEM; Rated Power: 1/10 W; Tolerance: +/-5%; Resistance: 170 kOhm; Supplier 1 URL: N/A; Supplier 3 URL: N/A; Value: 170 kOhm; Supplier 2 URL: N/A; Packaging: Tape and Reel; Supplier 1: Mouser; Supplier 1 Part Number: N/A; Supplier 2: Digi-Key; Supplier 2 Part Number: N/A; Supplier 3: thegioiic; Supplier 3 Part Number: N/A; Manufacturer Part Number: OEM; ComponentLink1Description: Datasheet; ComponentLink1URL: N/A; Mount: SMD/SMT; Operating Temperature Max: + 85 C; Operating Temperature Min: - 40 C; Package / Case: 0603; LCSC Part #: N/A
footprint RES_0603 (Chip Resistor, 2-Leads, Body 1.55x0.85mm, IPC Medium Density)
simulation model R_Resistor_Default (Model Description)
signal-integrity model Resistor Model
pins: 1, 2

## 0006031765
designator R?, comment 17 MOhm, 1/10 W
RES, size 0603, 17 MOhm, 1/10 W, 5%; Manufacturer: OEM; Rated Power: 1/10 W; Resistance: 17 MOhm; Value: 17 MOhm; Tolerance: +/-5%; Supplier 1 URL: N/A; Supplier 3 URL: N/A; Supplier 2 URL: N/A; Packaging: Tape and Reel; Supplier 1: Mouser; Supplier 1 Part Number: N/A; Supplier 2: Digi-Key; Supplier 2 Part Number: N/A; Supplier 3: thegioiic; Supplier 3 Part Number: N/A; Manufacturer Part Number: OEM; ComponentLink1Description: Datasheet; ComponentLink1URL: N/A; Mount: SMD/SMT; Operating Temperature Max: + 85 C; Operating Temperature Min: - 40 C; Package / Case: 0603; LCSC Part #: N/A
footprint RES_0603 (Chip Resistor, 2-Leads, Body 1.55x0.85mm, IPC Medium Density)
simulation model R_Resistor_Default (Model Description)
signal-integrity model Resistor Model
pins: 1, 2

## 0006031801
designator R?, comment 18 Ohm, 1/10 W
RES, size 0603, 18 Ohm, 1/10 W, 1%; Manufacturer: OEM; Resistance: 18 Ohm; Rated Power: 1/10 W; Value: 18 Ohm; Tolerance: +/-1%; Supplier 1 URL: https://www.mouser.vn/ProductDetail/Panasonic/ERJ-UP3F18R0V?qs=sGAEpiMZZMvdGkrng054twq3eZrCFN89n5s8jvdP%252BJXPaFNsA5Qf3A%3D%3D; Supplier 3 URL: N/A; Supplier 2 URL: N/A; Packaging: Tape and Reel; Supplier 1: Mouser; Supplier 1 Part Number: 667-ERJ-UP3F18R0V; Supplier 2: Digi-Key; Supplier 2 Part Number: 10-ERJ-UP3F18R0VTR-ND 10-ERJ-UP3F18R0VCT-ND 10-ERJ-UP3F18R0VDKR-ND; Supplier 3: thegioiic; Supplier 3 Part Number: N/A; Manufacturer Part Number: OEM; ComponentLink1Description: Datasheet; ComponentLink1URL: https://api.pim.na.industrial.panasonic.com/file_stream/main/fileversion/4484; Mount: SMD/SMT; Operating Temperature Max: + 85 C; Operating Temperature Min: - 40 C; Package / Case: 0603; LCSC Part #: N/A
footprint RES_0603 (Chip Resistor, 2-Leads, Body 1.55x0.85mm, IPC Medium Density)
simulation model R_Resistor_Default (Model Description)
signal-integrity model Resistor Model
pins: 1, 2

## 0006031805
designator R?, comment 18 Ohm, 1/10 W
RES, size 0603, 18 Ohm, 1/10 W, 5%; Manufacturer: Panasonic; Manufacturer Part Number: ERJ-PA3J180V; Rated Power: 1/10 W; Resistance: 18 Ohm; Value: 18 Ohm; Tolerance: +/-5%; Supplier 1 URL: https://www.mouser.vn/ProductDetail/Panasonic/ERJ-PA3J180V?qs=BzJM0faLVqWoePtbyfIonA%3D%3D; Supplier 3 URL: https://www.thegioiic.com/dien-tro-18-ohm-0603-5-; Supplier 2 URL: https://www.digikey.com/en/products/detail/panasonic-electronic-components/ERJ-PA3J180V/5035999?s=N4IgTCBcDaIGxwOwFoCiAlAUsgCgQQGZMBGADgAYA1EAXQF8g; Packaging: Tape and Reel; Supplier 1: Mouser; Supplier 1 Part Number: 667-ERJ-PA3J180V; Supplier 2: Digi-Key; Supplier 2 Part Number: P18.00BZTR-ND - Tape & Reel (TR); Supplier 3: thegioiic; Supplier 3 Part Number: N/A; ComponentLink1Description: Datasheet; ComponentLink1URL: https://www.mouser.vn/datasheet/2/315/AOA0000C331-1141874.pdf; Mount: SMD/SMT; Operating Temperature Max: + 85 C; Operating Temperature Min: - 40 C; Package / Case: 0603; LCSC Part #: N/A
footprint RES_0603 (Chip Resistor, 2-Leads, Body 1.55x0.85mm, IPC Medium Density)
simulation model R_Resistor_Default (Model Description)
signal-integrity model Resistor Model
pins: 1, 2

## 0006031821
designator R?, comment 1.8 kOhm, 1/10 W
RES, size 0603, 1.8 kOhm, 1/10 W, 1%; Manufacturer: OEM; Rated Power: 1/10 W; Tolerance: +/-1%; Resistance: 1.8 kOhm; Supplier 1 URL: https://www.mouser.vn/ProductDetail/Panasonic/ERJ-UP3F1801V?qs=sGAEpiMZZMvdGkrng054twq3eZrCFN89ywFV2wwBBiTTQ%252B52RjE6XA%3D%3D; Supplier 3 URL: N/A; Value: 1.8 kOhm; Supplier 2 URL: N/A; Packaging: Tape and Reel; Supplier 1: Mouser; Supplier 1 Part Number: 667-ERJ-UP3F1801V; Supplier 2: Digi-Key; Supplier 2 Part Number: 10-ERJ-UP3F1801VTR-ND 10-ERJ-UP3F1801VCT-ND 10-ERJ-UP3F1801VDKR-ND; Supplier 3: thegioiic; Supplier 3 Part Number: N/A; Manufacturer Part Number: OEM; ComponentLink1Description: Datasheet; ComponentLink1URL: https://api.pim.na.industrial.panasonic.com/file_stream/main/fileversion/4484; Mount: SMD/SMT; Operating Temperature Max: + 85 C; Operating Temperature Min: - 40 C; Package / Case: 0603; LCSC Part #: N/A
footprint RES_0603 (Chip Resistor, 2-Leads, Body 1.55x0.85mm, IPC Medium Density)
simulation model R_Resistor_Default (Model Description)
signal-integrity model Resistor Model
pins: 1, 2

## 0006031825
designator R?, comment 1.8 kOhm, 1/10 W
RES, size 0603, 1.8 kOhm, 1/10 W, 5%; Manufacturer: Panasonic; Manufacturer Part Number: ERJ-UP3J182V; Rated Power: 1/10 W; Tolerance: +/-5%; Resistance: 1.8 kOhm; Supplier 1 URL: https://www.mouser.vn/ProductDetail/Panasonic/ERJ-UP3J182V?qs=GedFDFLaBXEdz0KjUYQ0%2FQ%3D%3D; Supplier 3 URL: https://www.thegioiic.com/product/dien-tro-dan-smd?prid=291,6628,4682; Value: 1.8 kOhm; Supplier 2 URL: https://www.digikey.com/en/products/detail/panasonic-electronic-components/ERJ-UP3J182V/12092931?s=N4IgTCBcDaIGxwOwFoCiAlAUsgqgBQGZMBGADjADUQBdAXyA; Packaging: Tape and Reel; Supplier 1: Mouser; Supplier 1 Part Number: 667-ERJ-UP3J182V; Supplier 2: Digi-Key; Supplier 2 Part Number: 10-ERJ-UP3J182VTR-ND - Tape & Reel (TR); Supplier 3: thegioiic; Supplier 3 Part Number: N/A; ComponentLink1Description: Datasheet; ComponentLink1URL: https://www.mouser.vn/datasheet/2/315/Panasonic_Resistors_Thick_Film_Anti_Sulf_Anti_Surg-1825099.pdf; Mount: SMD/SMT; Operating Temperature Max: + 85 C; Operating Temperature Min: - 40 C; Package / Case: 0603; LCSC Part #: N/A
footprint RES_0603 (Chip Resistor, 2-Leads, Body 1.55x0.85mm, IPC Medium Density)
simulation model R_Resistor_Default (Model Description)
signal-integrity model Resistor Model
pins: 1, 2

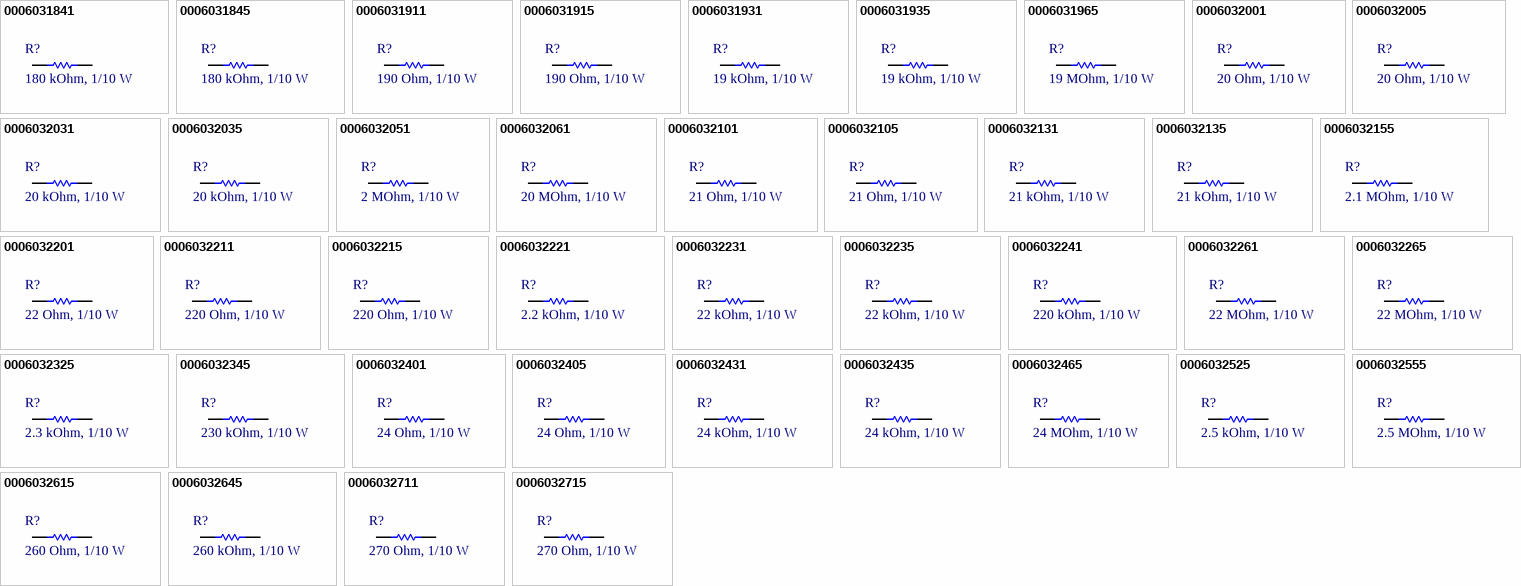
[diagram p2: symbols 0006031841 to 0006032715]

## 0006031841
designator R?, comment 180 kOhm, 1/10 W
RES, size 0603, 180 kOhm, 1/10 W, 1%; Manufacturer: OEM; Rated Power: 1/10 W; Tolerance: +/-1%; Resistance: 180 kOhm; Supplier 1 URL: https://www.mouser.vn/ProductDetail/Panasonic/ERJ-UP3F1803V?qs=sGAEpiMZZMvdGkrng054twq3eZrCFN8918LomXN2pgejfcQal9aCUw%3D%3D; Supplier 3 URL: N/A; Value: 180 kOhm; Supplier 2 URL: N/A; Packaging: Tape and Reel; Supplier 1: Mouser; Supplier 1 Part Number: 667-ERJ-UP3F1803V; Supplier 2: Digi-Key; Supplier 2 Part Number: 10-ERJ-UP3F1803VTR-ND 10-ERJ-UP3F1803VCT-ND 10-ERJ-UP3F1803VDKR-ND; Supplier 3: thegioiic; Supplier 3 Part Number: N/A; Manufacturer Part Number: OEM; ComponentLink1Description: Datasheet; ComponentLink1URL: https://api.pim.na.industrial.panasonic.com/file_stream/main/fileversion/4484; Mount: SMD/SMT; Operating Temperature Max: + 85 C; Operating Temperature Min: - 40 C; Package / Case: 0603; LCSC Part #: N/A
footprint RES_0603 (Chip Resistor, 2-Leads, Body 1.55x0.85mm, IPC Medium Density)
simulation model R_Resistor_Default (Model Description)
signal-integrity model Resistor Model
pins: 1, 2

## 0006031845
designator R?, comment 180 kOhm, 1/10 W
RES, size 0603, 180 kOhm, 1/10 W, 5%; Manufacturer: Panasonic; Manufacturer Part Number: ERJ-PA3J184V; Rated Power: 1/10 W; Tolerance: +/-5%; Resistance: 180 kOhm; Supplier 1 URL: https://www.mouser.vn/ProductDetail/Panasonic/ERJ-PA3J184V?qs=BzJM0faLVqV02%252BkMYM0K6A%3D%3D; Supplier 3 URL: https://www.thegioiic.com/dien-tro-180-kohm-0603-5; Value: 180 kOhm; Supplier 2 URL: https://www.digikey.com/en/products/detail/panasonic-electronic-components/ERJ-PA3J184V/5036003?s=N4IgTCBcDaIGxwOwFoCiAlAUsgCgQQGZMBGADgBYA1EAXQF8g; Packaging: Tape and Reel; Supplier 1: Mouser; Supplier 1 Part Number: 667-ERJ-PA3J184V; Supplier 2: Digi-Key; Supplier 2 Part Number: P180KBZTR-ND - Tape & Reel (TR); Supplier 3: thegioiic; Supplier 3 Part Number: N/A; ComponentLink1Description: Datasheet; ComponentLink1URL: https://www.mouser.vn/datasheet/2/315/AOA0000C331-1141874.pdf; Mount: SMD/SMT; Operating Temperature Max: + 85 C; Operating Temperature Min: - 40 C; Package / Case: 0603; LCSC Part #: N/A
footprint RES_0603 (Chip Resistor, 2-Leads, Body 1.55x0.85mm, IPC Medium Density)
simulation model R_Resistor_Default (Model Description)
signal-integrity model Resistor Model
pins: 1, 2

## 0006031911
designator R?, comment 190 Ohm, 1/10 W
RES, size 0603, 190 Ohm, 1/10 W, 1%; Manufacturer: OEM; Resistance: 190 Ohm; Rated Power: 1/10 W; Value: 190 Ohm; Tolerance: +/-1%; Supplier 1 URL: https://www.mouser.vn/ProductDetail/Panasonic/ERJ-PA3F1910V?qs=sGAEpiMZZMvdGkrng054t6%2FAfIpq60YD3kw99gNbcjtA%252BMXGoWBkmw%3D%3D; Supplier 3 URL: N/A; Supplier 2 URL: N/A; Packaging: Tape and Reel; Supplier 1: Mouser; Supplier 1 Part Number: 667-ERJ-PA3F1910V; Supplier 2: Digi-Key; Supplier 2 Part Number: 10-ERJ-UP3F1910VTR-ND; Supplier 3: thegioiic; Supplier 3 Part Number: N/A; Manufacturer Part Number: OEM; ComponentLink1Description: Datasheet; ComponentLink1URL: https://api.pim.na.industrial.panasonic.com/file_stream/main/fileversion/4484; Mount: SMD/SMT; Operating Temperature Max: + 85 C; Operating Temperature Min: - 40 C; Package / Case: 0603; LCSC Part #: N/A
footprint RES_0603 (Chip Resistor, 2-Leads, Body 1.55x0.85mm, IPC Medium Density)
simulation model R_Resistor_Default (Model Description)
signal-integrity model Resistor Model
pins: 1, 2

## 0006031915
designator R?, comment 190 Ohm, 1/10 W
RES, size 0603, 190 Ohm, 1/10 W, 5%; Manufacturer: OEM; Rated Power: 1/10 W; Resistance: 190 Ohm; Value: 190 Ohm; Tolerance: +/-5%; Supplier 1 URL: N/A; Supplier 3 URL: N/A; Supplier 2 URL: N/A; Packaging: Tape and Reel; Supplier 1: Mouser; Supplier 1 Part Number: N/A; Supplier 2: Digi-Key; Supplier 2 Part Number: N/A; Supplier 3: thegioiic; Supplier 3 Part Number: N/A; Manufacturer Part Number: OEM; ComponentLink1Description: Datasheet; ComponentLink1URL: N/A; Mount: SMD/SMT; Operating Temperature Max: + 85 C; Operating Temperature Min: - 40 C; Package / Case: 0603; LCSC Part #: N/A
footprint RES_0603 (Chip Resistor, 2-Leads, Body 1.55x0.85mm, IPC Medium Density)
simulation model R_Resistor_Default (Model Description)
signal-integrity model Resistor Model
pins: 1, 2

## 0006031931
designator R?, comment 19 kOhm, 1/10 W
RES, size 0603, 19 kOhm, 1/10 W, 1%; Manufacturer: OEM; Resistance: 19 kOhm; Rated Power: 1/10 W; Value: 19 kOhm; Tolerance: +/-1%; Supplier 1 URL: https://www.mouser.vn/ProductDetail/Panasonic/ERJ-UP3F1912V?qs=sGAEpiMZZMvdGkrng054twq3eZrCFN89AUiNRqLxQmQ6r3V00BiSfA%3D%3D; Supplier 3 URL: N/A; Supplier 2 URL: N/A; Packaging: Tape and Reel; Supplier 1: Mouser; Supplier 1 Part Number: 667-ERJ-UP3F1912V; Supplier 2: Digi-Key; Supplier 2 Part Number: 10-ERJ-UP3F1912VTR-ND; Supplier 3: thegioiic; Supplier 3 Part Number: N/A; Manufacturer Part Number: OEM; ComponentLink1Description: Datasheet; ComponentLink1URL: https://api.pim.na.industrial.panasonic.com/file_stream/main/fileversion/4484; Mount: SMD/SMT; Operating Temperature Max: + 85 C; Operating Temperature Min: - 40 C; Package / Case: 0603; LCSC Part #: N/A
footprint RES_0603 (Chip Resistor, 2-Leads, Body 1.55x0.85mm, IPC Medium Density)
simulation model R_Resistor_Default (Model Description)
signal-integrity model Resistor Model
pins: 1, 2

## 0006031935
designator R?, comment 19 kOhm, 1/10 W
RES, size 0603, 19 kOhm, 1/10 W, 5%; Manufacturer: OEM; Rated Power: 1/10 W; Resistance: 19 kOhm; Value: 19 kOhm; Tolerance: +/-5%; Supplier 1 URL: N/A; Supplier 3 URL: N/A; Supplier 2 URL: N/A; Packaging: Tape and Reel; Supplier 1: Mouser; Supplier 1 Part Number: N/A; Supplier 2: Digi-Key; Supplier 2 Part Number: N/A; Supplier 3: thegioiic; Supplier 3 Part Number: N/A; Manufacturer Part Number: OEM; ComponentLink1Description: Datasheet; ComponentLink1URL: N/A; Mount: SMD/SMT; Operating Temperature Max: + 85 C; Operating Temperature Min: - 40 C; Package / Case: 0603; LCSC Part #: N/A
footprint RES_0603 (Chip Resistor, 2-Leads, Body 1.55x0.85mm, IPC Medium Density)
simulation model R_Resistor_Default (Model Description)
signal-integrity model Resistor Model
pins: 1, 2

## 0006031965
designator R?, comment 19 MOhm, 1/10 W
RES, size 0603, 19 MOhm, 1/10 W, 5%; Manufacturer: OEM; Rated Power: 1/10 W; Resistance: 19 MOhm; Value: 19 MOhm; Tolerance: +/-5%; Supplier 1 URL: N/A; Supplier 3 URL: N/A; Supplier 2 URL: N/A; Packaging: Tape and Reel; Supplier 1: Mouser; Supplier 1 Part Number: N/A; Supplier 2: Digi-Key; Supplier 2 Part Number: N/A; Supplier 3: thegioiic; Supplier 3 Part Number: N/A; Manufacturer Part Number: OEM; ComponentLink1Description: Datasheet; ComponentLink1URL: N/A; Mount: SMD/SMT; Operating Temperature Max: + 85 C; Operating Temperature Min: - 40 C; Package / Case: 0603; LCSC Part #: N/A
footprint RES_0603 (Chip Resistor, 2-Leads, Body 1.55x0.85mm, IPC Medium Density)
simulation model R_Resistor_Default (Model Description)
signal-integrity model Resistor Model
pins: 1, 2

## 0006032001
designator R?, comment 20 Ohm, 1/10 W
RES, size 0603, 20 Ohm, 1/10 W, 1%; Manufacturer: OEM; Rated Power: 1/10 W; Resistance: 20 Ohm; Value: 20 Ohm; Tolerance: +/-1%; Supplier 1 URL: https://www.mouser.vn/ProductDetail/Panasonic/ERJ-H3EF20R0V?qs=eP2BKZSCXI5MeliV8G5lXA%3D%3D; Supplier 3 URL: N/A; Supplier 2 URL: https://www.digikey.com/en/products/detail/yageo/RC0603FR-1020RL/14008331; Packaging: Tape and Reel; Supplier 1: Mouser; Supplier 1 Part Number: 667-ERJ-H3EF20R0V; Supplier 2: Digi-Key; Supplier 2 Part Number: 13-RC0603FR-1020RLTR-ND; Supplier 3: thegioiic; Supplier 3 Part Number: N/A; Manufacturer Part Number: OEM; ComponentLink1Description: Datasheet; ComponentLink1URL: N/A; Mount: SMD/SMT; Operating Temperature Max: + 85 C; Operating Temperature Min: - 40 C; Package / Case: 0603; LCSC Part #: N/A
footprint RES_0603 (Chip Resistor, 2-Leads, Body 1.55x0.85mm, IPC Medium Density)
simulation model R_Resistor_Default (Model Description)
signal-integrity model Resistor Model
pins: 1, 2

## 0006032005
designator R?, comment 20 Ohm, 1/10 W
RES, size 0603, 20 Ohm, 1/10 W, 5%; Manufacturer: Panasonic; Manufacturer Part Number: ERJ-UP3J200V; Rated Power: 1/10 W; Resistance: 20 Ohm; Value: 20 Ohm; Tolerance: +/-5%; Supplier 1 URL: https://www.mouser.vn/ProductDetail/Panasonic/ERJ-UP3J200V?qs=GedFDFLaBXGLdxLyckTP9w%3D%3D; Supplier 3 URL: https://www.thegioiic.com/dien-tro-20-ohm-0603-5-; Supplier 2 URL: https://www.digikey.com/en/products/detail/panasonic-electronic-components/ERJ-UP3J200V/12091992?s=N4IgTCBcDaIGxwOwFoCiAlAUsgqgBQGZMwAGEgNRAF0BfIA; Packaging: Tape and Reel; Supplier 1: Mouser; Supplier 1 Part Number: 667-ERJ-UP3J200V; Supplier 2: Digi-Key; Supplier 2 Part Number: 10-ERJ-UP3J200VTR-ND - Tape & Reel (TR); Supplier 3: thegioiic; Supplier 3 Part Number: N/A; ComponentLink1Description: Datasheet; ComponentLink1URL: https://www.mouser.vn/datasheet/2/315/Panasonic_Resistors_Thick_Film_Anti_Sulf_Anti_Surg-1825099.pdf; Mount: SMD/SMT; Operating Temperature Max: + 85 C; Operating Temperature Min: - 40 C; Package / Case: 0603; LCSC Part #: N/A
footprint RES_0603 (Chip Resistor, 2-Leads, Body 1.55x0.85mm, IPC Medium Density)
simulation model R_Resistor_Default (Model Description)
signal-integrity model Resistor Model
pins: 1, 2